# EAGLE library part PORT_USER_64_CONN (library commodore)
Userport Commodore 64, connector type
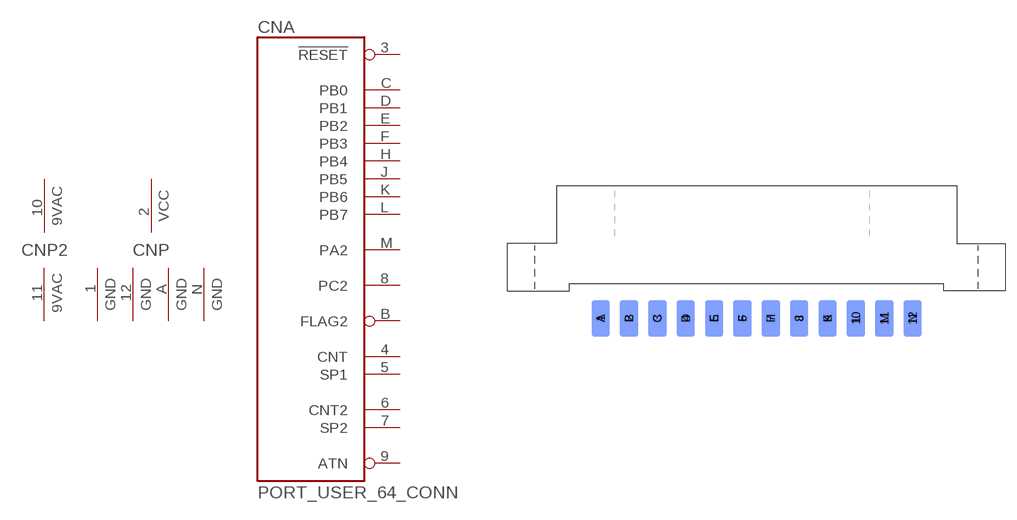
[diagram p40: symbol with the pads of MA156_12-2_SHORT; footprint MA156_12-2_SHORT]

Designator prefix CN; gates A=PORT_USER_64_CONN P=PWR-GND4 P2=9VAC

## PORT_USER_64_CONN  [MA156_12-2_SHORT]
1  P:GND  pwr
2  P:VCC  pwr
3  A:!RESET
4  A:CNT
5  A:SP1
6  A:CNT2
7  A:SP2
8  A:PC2
9  A:ATN
10  P2:9VAC  pwr
11  P2:9VAC  pwr
12  P:GND  pwr
A  P:GND  pwr
B  A:FLAG2  out
C  A:PB0
D  A:PB1
E  A:PB2
F  A:PB3
H  A:PB4
J  A:PB5
K  A:PB6
L  A:PB7
M  A:PA2
N  P:GND  pwr

## Footprint MA156_12-2_SHORT (pad centres in mm)
smd 2.54 x 5.08: 1 -21.793,0; 2 -17.831,0; 3 -13.868,0; 4 -9.906,0; 5 -5.944,0; 6 -1.981,0; 7 1.981,0; 8 5.944,0; 9 9.906,0; 10 13.868,0; 11 17.831,0; 12 21.793,0
smd 2.54 x 5.08 bottom: A -21.793,0; B -17.831,0; C -13.868,0; D -9.906,0; E -5.944,0; F -1.981,0; H 1.981,0; J 5.944,0; K 9.906,0; L 13.868,0; M 17.831,0; N 21.793,0